# Altium footprint library 封装库.PcbLib: 324 footprints (part 9 of 21)
Each footprint in its own frame and in the unit in brackets; x right, y up, seen from the top. Pads: shape width x height; smd on the part's side, far side on the other; paste and mask are expansions set on the pad; w line width, h text height; cw(c..) or ccw(c..) is an arc to the next point about the centre after c.
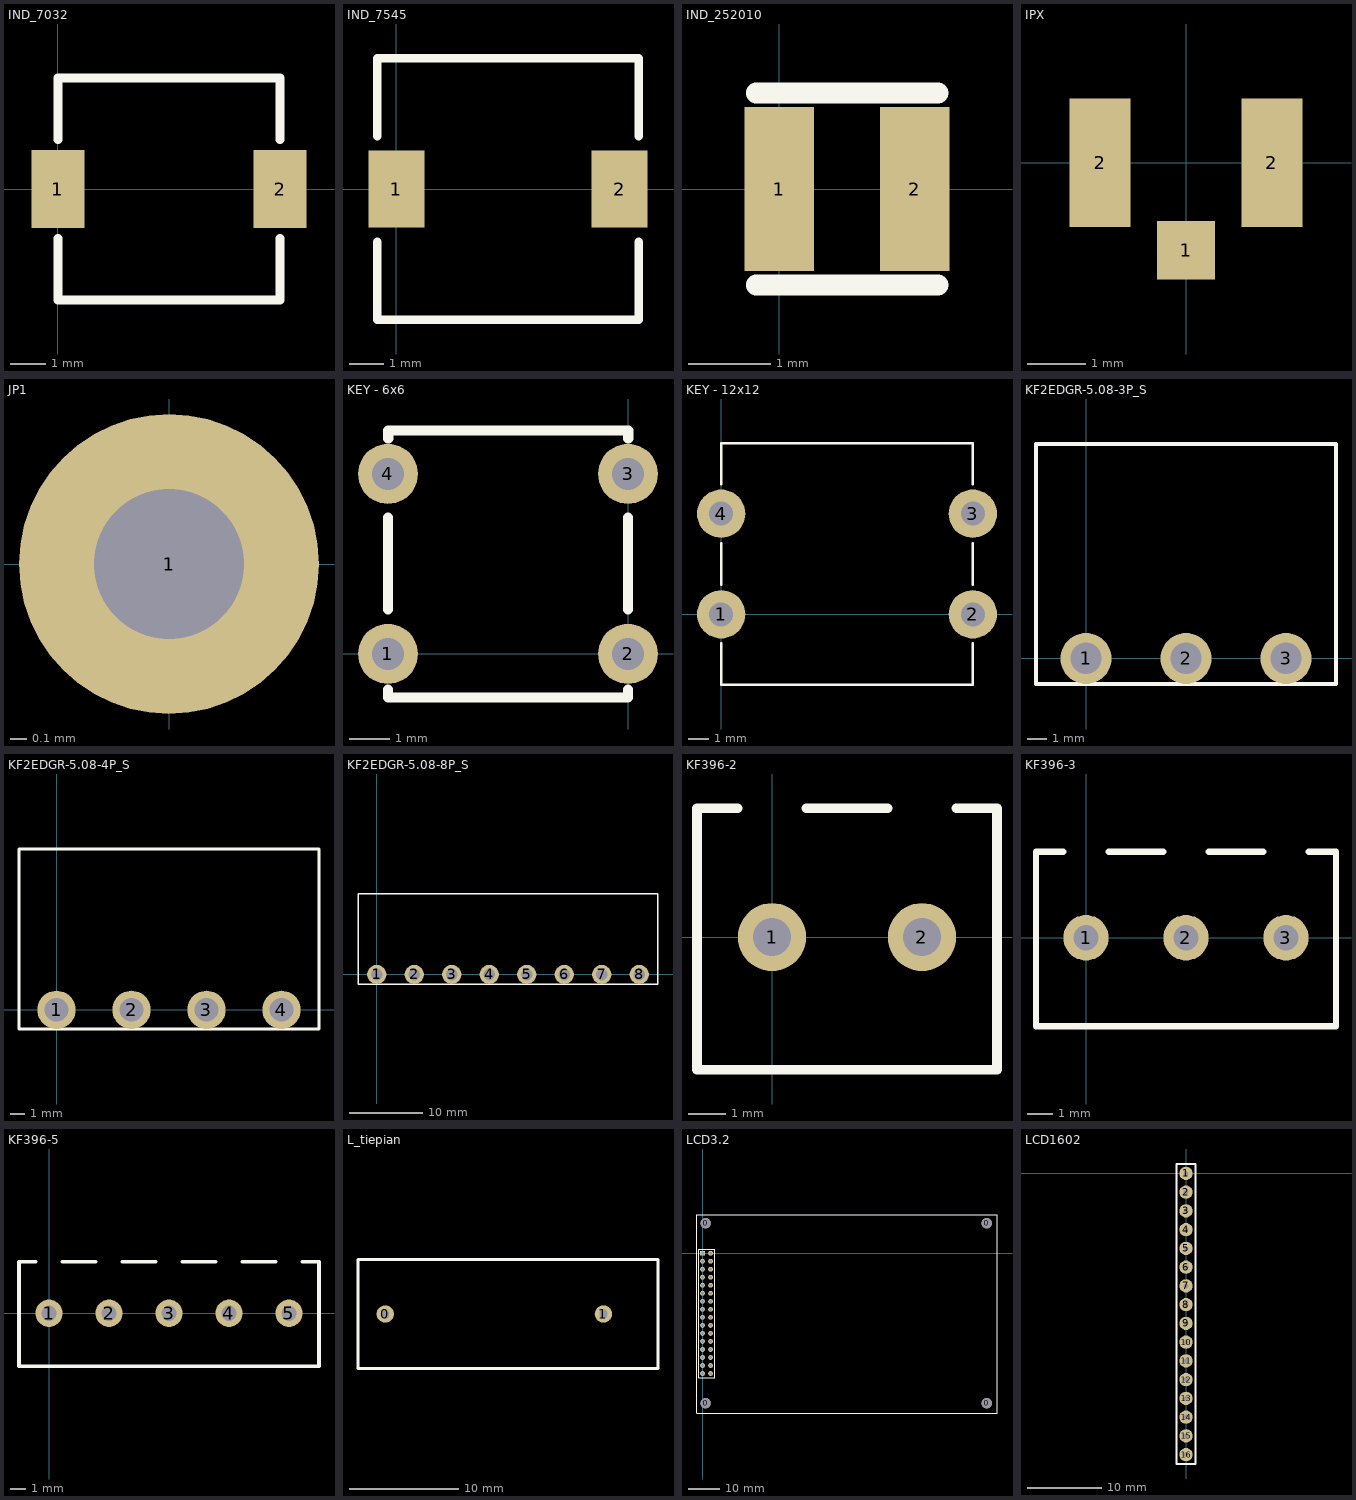
[diagram p8: the footprints below, top view; thin cyan lines are the x and y axes]

## IND_7032 [mm]
height 3.2
pads (2):
  rect 1.5x2.2 smd: 1(0,0) 2(6.3,0)
Top Overlay:
  lines w0.254: 0,-1.4 0,-3.15 6.3,-3.15 6.3,-1.4 ; 0,1.4 0,3.15 6.3,3.15 6.3,1.4

## IND_7545 [mm]
height 4.5
pads (2):
  rect 1.6x2.2 smd: 1(0,0) 2(6.4,0)
Top Overlay:
  lines w0.254: -0.55,-1.524 -0.55,-3.75 6.95,-3.75 6.95,-1.524 ; -0.55,1.524 -0.55,3.75 6.95,3.75 6.95,1.524

## IND_252010 [mm]
pads (2):
  rect 0.85x2 smd: 1(0,0) 2(1.65,0)
Top Overlay:
  lines w0.254: -0.279,-1.168 1.93,-1.168 ; -0.279,1.168 1.93,1.168

## IPX [mm]
pads (3):
  rect 1x1 smd: 1(0,-1.5)
  rect 1.05x2.2 smd: 2(-1.475,0) 2(1.475,0)

## JP1 [mm]
pads (1):
  round 1.8 hole 0.9: 1(0,0)

## KEY - 6x6 [mm]
pads (4):
  round 1.5 hole 0.8: 1(-6,0) 2(0,0) 3(0,4.5) 4(-6,4.5)
Top Overlay:
  lines w0.254: -6,-0.889 -6,-1.092 0,-1.092 0,-0.889 ; -6,1.118 -6,3.404 ; -5.994,5.385 -5.994,5.588 0.006,5.588 0.006,5.385 ; 0,1.118 0,3.404

## KEY - 12x12 [mm]
pads (4):
  round 2.4 hole 1.2: 1(0,0) 2(12.5,0) 3(12.5,5) 4(0,5)
Top Overlay:
  lines w0.127: 0,-1.448 0,-3.5 12.5,-3.5 12.5,-1.448 ; 0,1.473 0,3.522 ; 0,6.452 0,8.5 12.5,8.5 12.5,6.452 ; 12.5,1.473 12.5,3.522

## KF2EDGR-5.08-3P_S [mm]
height 8.3
pads (3):
  round 2.6 hole 1.6: 1(0,0) 2(5.08,0) 3(10.16,0)
Top Overlay:
  lines w0.2: -2.54,-1.3 12.7,-1.3 12.7,10.9 -2.54,10.9 -2.54,-1.3

## KF2EDGR-5.08-4P_S [mm]
height 8.3
pads (4):
  round 2.6 hole 1.6: 1(0,0) 2(5.08,0) 3(10.16,0) 4(15.24,0)
Top Overlay:
  lines w0.2: -2.54,-1.3 17.78,-1.3 17.78,10.9 -2.54,10.9 -2.54,-1.3

## KF2EDGR-5.08-8P_S [mm]
height 8.3
pads (8):
  round 2.6 hole 1.6: 1(0,0) 2(5.08,0) 3(10.16,0) 4(15.24,0) 5(20.32,0) 6(25.4,0) 7(30.48,0) 8(35.56,0)
Top Overlay:
  lines w0.2: -2.54,-1.3 38.1,-1.3 38.1,10.9 -2.54,10.9 -2.54,-1.3

## KF396-2 [mm]
height 8.8
pads (2):
  round 1.8 hole 1: 1(0,0) 2(3.96,0)
Top Overlay:
  lines w0.254: -0.9,3.4 -1.98,3.4 -1.98,-3.5 5.94,-3.5 5.94,3.4 4.86,3.4 ; 0.9,3.4 3.06,3.4

## KF396-3 [mm]
height 8.8
pads (3):
  round 1.8 hole 1: 1(0,0) 2(3.96,0) 3(7.92,0)
Top Overlay:
  lines w0.254: -0.9,3.4 -1.98,3.4 -1.98,-3.5 9.9,-3.5 9.9,3.4 8.82,3.4 ; 0.9,3.4 3.06,3.4 ; 4.86,3.4 7.02,3.4

## KF396-5 [mm]
height 8.8
pads (5):
  round 1.8 hole 1: 1(0,0) 2(3.96,0) 3(7.92,0) 4(11.88,0) 5(15.84,0)
Top Overlay:
  lines w0.254: -0.9,3.4 -1.98,3.4 -1.98,-3.5 17.82,-3.5 17.82,3.4 16.74,3.4 ; 0.9,3.4 3.06,3.4 ; 4.86,3.4 7.02,3.4 ; 8.82,3.4 10.98,3.4 ; 12.78,3.4 14.94,3.4

## L_tiepian [mm]
pads (2):
  round 1.6 hole 0.65 slot 0.85 at 90 deg unplated: 0(-50,-62.5) 1(-30,-62.5)
Top Overlay:
  lines w0.254: -52.5,-67.5 -25,-67.5 -25,-57.5 -52.5,-57.5 -52.5,-67.5

## LCD3.2 [mm]
pads (36):
  round 3.2 hole 3.2 unplated: 0(1,-47.5) 0(1,9.5) 0(90,-47.5) 0(90,9.5)
  rect 1.5x1.5 hole 0.8: 1(0,0)
  round 1.5 hole 0.8: 2(2.54,0) 20(2.54,-22.86) 22(2.54,-25.4) 32(2.54,-38.1)
  round 1.5 hole 0.9: 3(0,-2.54) 4(2.54,-2.54) 5(0,-5.08) 6(2.54,-5.08) 7(0,-7.62) 8(2.54,-7.62) 9(0,-10.16) 10(2.54,-10.16) 11(0,-12.7) 12(2.54,-12.7) 13(0,-15.24) 14(2.54,-15.24) 15(0,-17.78) 16(2.54,-17.78) 17(0,-20.32) 18(2.54,-20.32) 19(0,-22.86) 21(0,-25.4) 23(0,-27.94) 24(2.54,-27.94) 25(0,-30.48) 26(2.54,-30.48) 27(0,-33.02) 28(2.54,-33.02) 29(0,-35.56) 30(2.54,-35.56) 31(0,-38.1)
Top Overlay:
  lines w0.2: -1.27,-39.37 -1.27,1.27 3.81,1.27 3.81,-39.37 -1.27,-39.37
  lines w0.254: -1.75,-50.75 93.25,-50.75 93.25,12.25 -1.75,12.25 -1.75,-50.75

## LCD1602 [mm]
pads (16):
  round 1.8 hole 0.7: 1(0,0) 2(0,-2.54) 3(0,-5.08) 4(0,-7.62) 5(0,-10.16) 6(0,-12.7) 7(0,-15.24) 8(0,-17.78) 9(0,-20.32) 10(0,-22.86) 11(0,-25.4) 12(0,-27.94) 13(0,-30.48) 14(0,-33.02) 15(0,-35.56) 16(0,-38.1)
Top Overlay:
  lines w0.254: -1.27,-39.37 -1.27,1.27 1.27,1.27 1.27,-39.37 -1.27,-39.37